# Altium footprint library SOD370X155X135L32X57.PcbLib: 1 footprints
Each footprint in its own frame and in the unit in brackets; x right, y up, seen from the top. Pads: shape width x height; smd on the part's side, far side on the other; paste and mask are expansions set on the pad; w line width, h text height; cw(c..) or ccw(c..) is an arc to the next point about the centre after c.
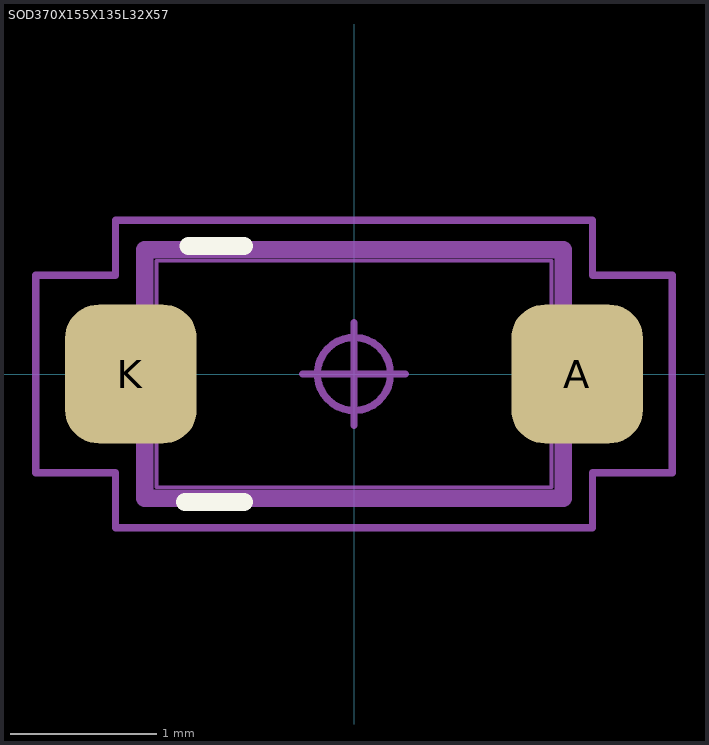
[diagram p0: the footprint, top view; thin cyan lines are the x and y axes]

## SOD370X155X135L32X57 [mm] "DIODE S0D-323"
height 1.45
pads (2):
  rrect51% 0.9x0.95 smd: A(1.525,0) K(-1.525,0)
Top Overlay:
  lines w0.125: -1.154,-0.875 -0.754,-0.875 ; -1.129,0.875 -0.754,0.875
Mechanical 13:
  lines w0.025: -1.85,-0.285 -1.525,-0.285 -1.525,0.285 -1.85,0.285 -1.85,-0.285 ; -1.35,-0.775 -1.35,0.775 1.35,0.775 1.35,-0.775 -1.35,-0.775 ; 1.525,-0.285 1.525,0.285 1.85,0.285 1.85,-0.285 1.525,-0.285
  lines w0.12: -1.43,-0.85 -1.43,0.85 1.43,0.85 1.43,-0.85 -1.43,-0.85
Mechanical 15:
  circle w0.05: c0,0 r0.25
  lines w0.05: -0.35,0 0.35,0 ; 0,-0.35 0,0.35 ; -2.175,-0.675 -2.175,0.675 -1.63,0.675 -1.63,1.05 1.63,1.05 1.63,0.675 2.175,0.675 2.175,-0.675 1.63,-0.675 1.63,-1.05 -1.63,-1.05 -1.63,-0.675 -2.175,-0.675
3D body "SOD370X155X135L32X57.STEP": height 1.35, standoff 0, extent -1.85,-0.775 1.85,0.775